# Altium schematic symbol library SCH - OPAMP - TI SINGLE SOIC.SCHLIB: 1 symbol
Pins are listed as number, name and electrical type; pins without a type are passive.

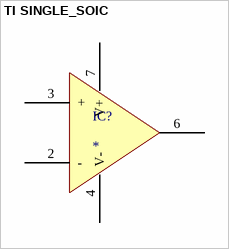
[diagram p0: symbol TI SINGLE_SOIC]

## TI SINGLE_SOIC
designator IC?
pins: 2 -, 3 +, 4 V-, 6 OUT, 7 V+